# Altium footprint library 3012.PcbLib: 1 footprints
Each footprint in its own frame and in the unit in brackets; x right, y up, seen from the top. Pads: shape width x height; smd on the part's side, far side on the other; paste and mask are expansions set on the pad; w line width, h text height; cw(c..) or ccw(c..) is an arc to the next point about the centre after c.
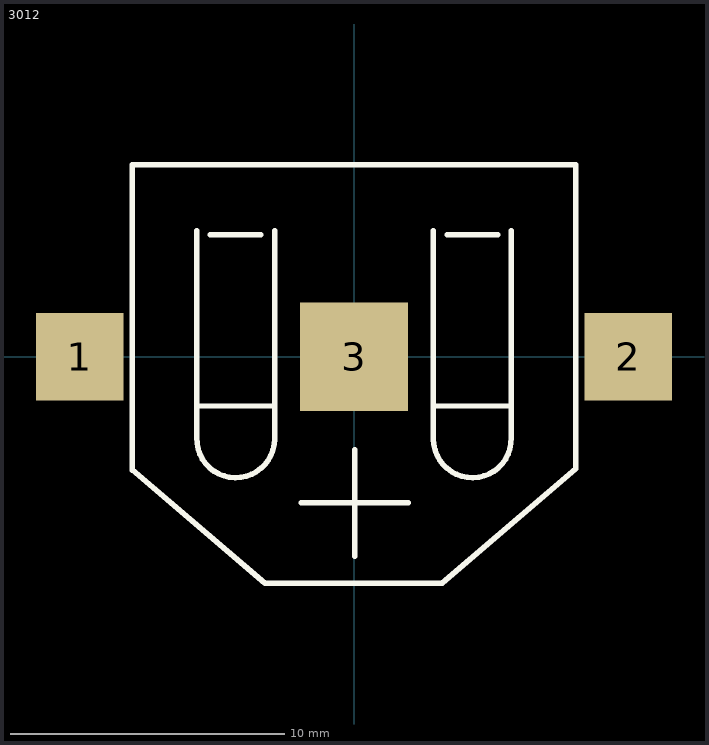
[diagram p0: the footprint, top view; thin cyan lines are the x and y axes]

## 3012 [mm] "16mm Coin Cell Battery Clip (SMT)"
pads (3):
  rect 3.2x3.2 smd: 1(-10.02,0) 2(10.02,0)
  rect 3.96x3.96 smd: 3(0,0)
Top Overlay:
  lines w0.2: -8.103,-4.14 -8.103,7.01 8.103,7.01 8.103,-4.089 ; -8.103,-4.123 -3.247,-8.273 3.215,-8.273 8.103,-4.096 ; -5.741,-3 -5.741,4.6 ; -5.741,-1.8 -2.901,-1.8 ; -5.74,-2.954 ccw(c-4.321,-3) -2.901,-3 -2.901,4.6 ; -5.241,4.45 -3.401,4.45 ; -1.925,-5.342 1.975,-5.342 ; 0.025,-7.292 0.025,-3.392 ; 2.901,-1.8 5.741,-1.8 ; 2.901,4.6 2.901,-3 ccw(c4.321,-3) 5.74,-2.954 ; 3.401,4.45 5.241,4.45 ; 5.741,-3 5.741,4.6
3D body: height 3.96, standoff 0, extent -8.203,-8.373 8.203,7.11